# Altium footprint library TE 5-146280-5.PcbLib: 1 footprints
Each footprint in its own frame and in the unit in brackets; x right, y up, seen from the top. Pads: shape width x height; smd on the part's side, far side on the other; paste and mask are expansions set on the pad; w line width, h text height; cw(c..) or ccw(c..) is an arc to the next point about the centre after c.
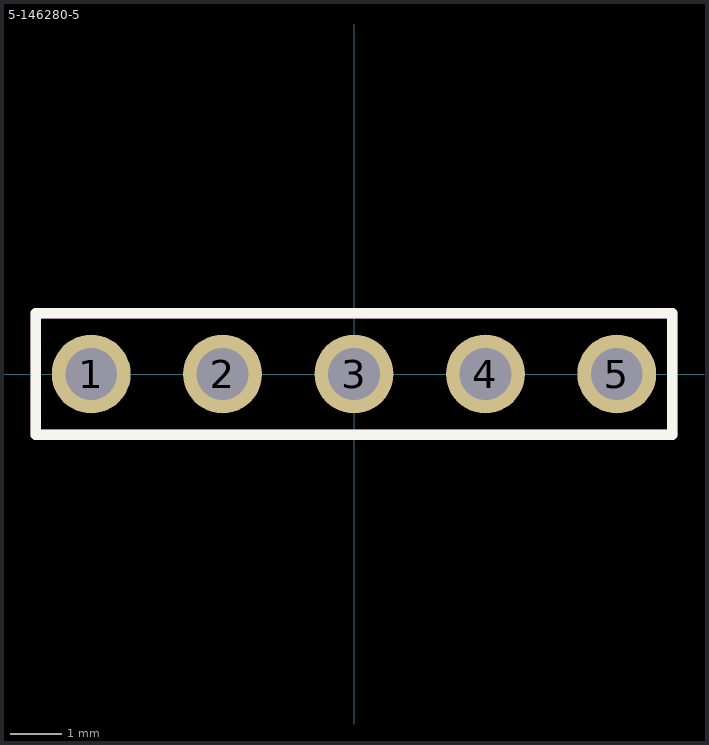
[diagram p0: the footprint, top view; thin cyan lines are the x and y axes]

## 5-146280-5 [mil] "PCB Mount Header, Vertical, Board-to-Board, 5 Position, 2.54mm"
height 393.7
pads (5):
  round 60 hole 39.37: 1(-200,0) 2(-100,0) 3(0,0) 4(100,0) 5(200,0)
Top Overlay:
  lines w7.87: -242.13,-46.26 -242.13,46.26 242.13,46.26 242.13,-46.26 -242.13,-46.26
Top 3D Body:
  lines w7.87: -242.13,-46.26 -242.13,46.26 242.13,46.26 242.13,-46.26 -242.13,-46.26
3D body "c-5-146280-5-d-3d.stp": height 320.55, standoff -119.45, extent -241.99,-45.99 242.01,46.01